# Altium footprint library AG.Chip.PcbLib: 9 footprints
Each footprint in its own frame and in the unit in brackets; x right, y up, seen from the top. Pads: shape width x height; smd on the part's side, far side on the other; paste and mask are expansions set on the pad; w line width, h text height; cw(c..) or ccw(c..) is an arc to the next point about the centre after c.
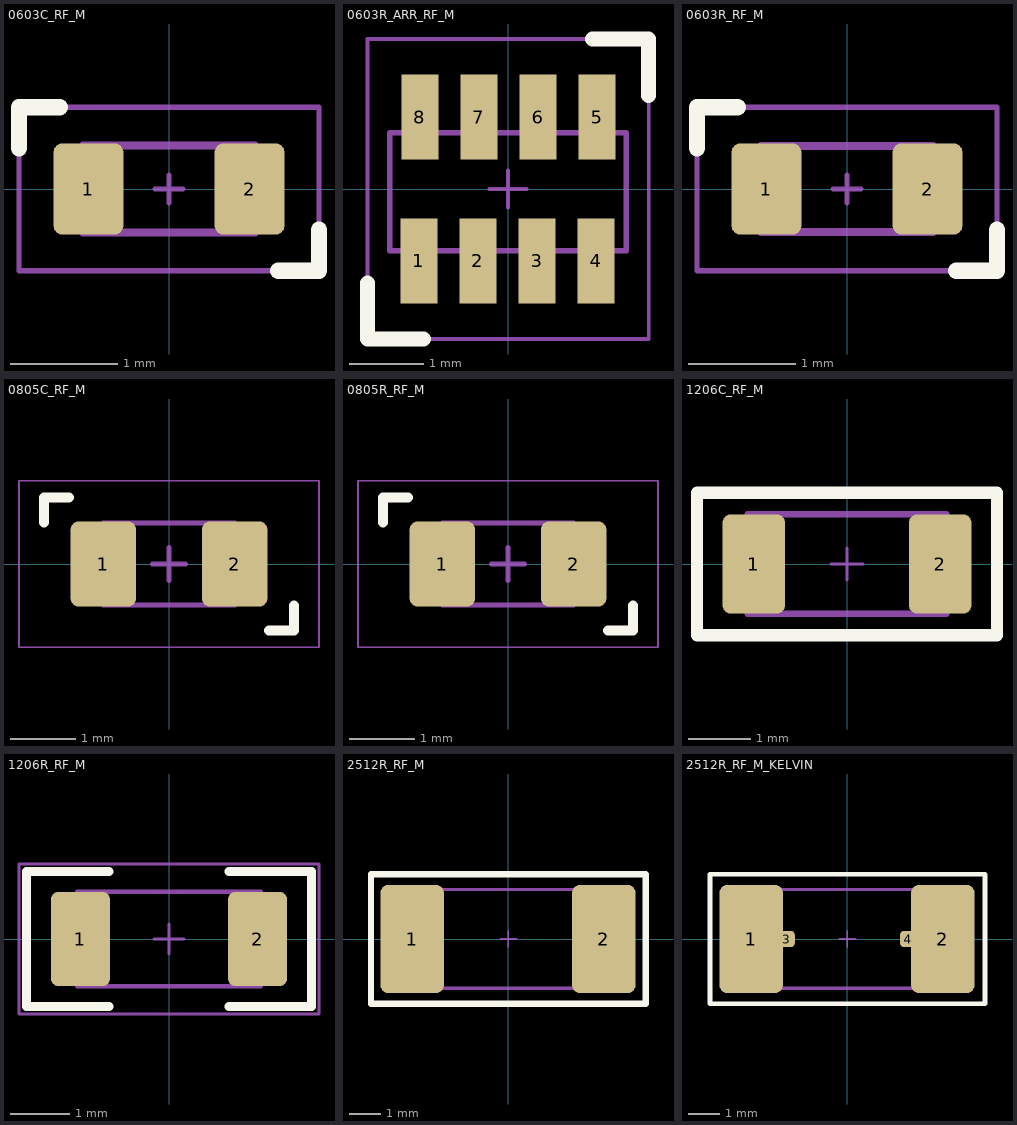
[diagram p0: the footprints below, top view; thin cyan lines are the x and y axes]

## 0603C_RF_M [mm] "Chip Capacitor 0603 Reflow Medium"
pads (2):
  rrect25% 0.65x0.85 smd: 1(-0.75,0) 2(0.75,0)
Top Overlay:
  lines w0.152: -1.397,0.381 -1.397,0.762 -1.016,0.762 ; 1.016,-0.762 1.397,-0.762 1.397,-0.381
Mechanical 13:
  lines w0.076: -0.8,-0.405 0.8,-0.405 0.8,0.405 -0.8,0.405 -0.8,-0.405
Mechanical 15:
  lines w0.051: -0.127,0 0.127,0 ; 0,-0.127 0,0.127 ; -1.397,-0.762 -1.397,0.762 1.397,0.762 1.397,-0.762 -1.397,-0.762
3D body "CAP-06033A102FAT2A.STEP": height 0.9, standoff 0, extent -0.8,-0.405 0.8,0.405

## 0603R_ARR_RF_M [mm]
pads (8):
  rect 0.5x1.15 smd: 1(-1.206,-0.975) 2(-0.406,-0.975) 3(0.393,-0.975) 4(1.194,-0.975) 5(1.206,0.975) 6(0.406,0.975) 7(-0.393,0.975) 8(-1.194,0.975)
Top Overlay:
  lines w0.203: -1.905,-1.27 -1.905,-2.032 -1.143,-2.032 ; 1.143,2.032 1.905,2.032 1.905,1.27
Mechanical 13:
  lines w0.076: -1.6,-0.838 1.6,-0.838 1.6,0.762 -1.6,0.762 -1.6,-0.838
Mechanical 15:
  lines w0.051: -0.254,0 0.254,0 ; 0,-0.254 0,0.254 ; -1.905,-2.032 1.905,-2.032 1.905,2.032 -1.905,2.032 -1.905,-2.032
3D body "RES_ARR_YC164_RESPACK.stp": height 0.61, standoff 0, extent -1.6,-0.838 1.6,0.762

## 0603R_RF_M [mm] "Chip Resistor 0603 Reflow Medium"
pads (2):
  rrect25% 0.65x0.85 smd: 1(-0.75,0) 2(0.75,0)
Top Overlay:
  lines w0.152: -1.397,0.381 -1.397,0.762 -1.016,0.762 ; 1.016,-0.762 1.397,-0.762 1.397,-0.381
Mechanical 13:
  lines w0.076: -0.8,-0.4 -0.8,0.4 0.8,0.4 0.8,-0.4 -0.8,-0.4
Mechanical 15:
  lines w0.051: -0.127,0 0.127,0 ; 0,-0.127 0,0.127 ; -1.397,-0.762 1.397,-0.762 1.397,0.762 -1.397,0.762 -1.397,-0.762
3D body "RES-CRGCQ0603J4M7.STEP": height 0.55, standoff 0, extent -0.8,-0.4 0.8,0.4

## 0805C_RF_M [mm] "Chip Capacitor 0805 Reflow Medium"
pads (2):
  rrect25% 1x1.3 smd: 1(-1,0) 2(1,0)
Top Overlay:
  lines w0.152: -1.905,0.635 -1.905,1.016 -1.524,1.016 ; 1.524,-1.016 1.905,-1.016 1.905,-0.635
Mechanical 13:
  lines w0.076: -1.005,-0.625 -1.005,0.625 1.005,0.625 1.005,-0.625 -1.005,-0.625
Mechanical 15:
  lines w0.025: -2.286,-1.27 -2.286,1.27 2.286,1.27 2.286,-1.27 -2.286,-1.27
  lines w0.076: -0.254,0 0.254,0 ; 0,-0.254 0,0.254
3D body "CAP-08053C104JAT2A.STEP": height 0.94, standoff 0, extent -1.005,-0.625 1.005,0.625

## 0805R_RF_M [mm] "Chip Resistor 0805 Reflow Medium"
pads (2):
  rrect25% 1x1.3 smd: 1(-1,0) 2(1,0)
Top Overlay:
  lines w0.152: -1.905,0.635 -1.905,1.016 -1.524,1.016 ; 1.524,-1.016 1.905,-1.016 1.905,-0.635
Mechanical 13:
  lines w0.076: -1,-0.625 1,-0.625 1,0.625 -1,0.625 -1,-0.625
Mechanical 15:
  lines w0.025: -2.286,-1.27 2.286,-1.27 2.286,1.27 -2.286,1.27 -2.286,-1.27
  lines w0.076: -0.254,0 0.254,0 ; 0,-0.254 0,0.254
3D body "RES-RT0805BRD0713KL.STEP": height 0.6, standoff 0, extent -1,-0.625 1,0.625

## 1206C_RF_M [mm] "Chip Capacitor 1206 Reflow Medium"
pads (2):
  rrect25% 1x1.6 smd: 1(-1.5,0) 2(1.5,0)
Top Overlay:
  lines w0.2: -2.413,-1.143 2.413,-1.143 2.413,1.143 -2.413,1.143 -2.413,-1.143
Mechanical 13:
  lines w0.1: -1.6,-0.8 1.6,-0.8 1.6,0.8 -1.6,0.8 -1.6,-0.8
Mechanical 15:
  lines w0.05: -0.254,0 0.254,0 ; 0,-0.254 0,0.254 ; -2.413,-1.143 2.413,-1.143 2.413,1.143 -2.413,1.143 -2.413,-1.143
3D body "CAP-12063C104KAT2A.STEP": height 0.94, standoff 0, extent -1.6,-0.8 1.6,0.8

## 1206R_RF_M [mm] "Chip Resistor 1206 Reflow Medium"
pads (2):
  rrect25% 1x1.6 smd: 1(-1.5,0) 2(1.5,0)
Top Overlay:
  lines w0.152: -1.016,-1.143 -2.413,-1.143 -2.413,1.143 -1.016,1.143 ; 1.016,-1.143 2.413,-1.143 2.413,1.143 1.016,1.143
Mechanical 13:
  lines w0.076: -1.55,-0.8 1.55,-0.8 1.55,0.8 -1.55,0.8 -1.55,-0.8
Mechanical 15:
  lines w0.051: -0.254,0 0.254,0 ; 0,-0.254 0,0.254 ; -2.54,-1.27 -2.54,1.27 2.54,1.27 2.54,-1.27 -2.54,-1.27
3D body "RES-RC1206JR-07390RL.STEP": height 0.65, standoff 0, extent -1.55,-0.8 1.55,0.8

## 2512R_RF_M [mm] "Chip Resistor 2512 Reflow Medium"
pads (2):
  rrect25% 2x3.4 smd: 1(-3.025,0) 2(3,0)
Top Overlay:
  lines w0.2: -4.318,-2.032 4.318,-2.032 4.318,2.032 -4.318,2.032 -4.318,-2.032
Mechanical 13:
  lines w0.1: -3.175,-1.55 3.175,-1.55 3.175,1.55 -3.175,1.55 -3.175,-1.55
Mechanical 15:
  lines w0.05: -0.254,0 0.254,0 ; 0,-0.254 0,0.254 ; -4.318,-2.032 4.318,-2.032 4.318,2.032 -4.318,2.032 -4.318,-2.032
3D body "RES-RC2512FK-07220KL.STEP": height 0.65, standoff 0, extent -3.175,-1.55 3.175,1.55

## 2512R_RF_M_KELVIN [mm] "Chip Resistor 2512 Reflow Medium"
pads (4):
  rrect25% 2x3.4 smd: 1(-3.025,0) 2(3,0)
  rrect50% 0.508x0.508 smd: 3(-1.905,0) 4(1.905,0)
Top Overlay:
  lines w0.152: -4.318,-2.032 4.318,-2.032 4.318,2.032 -4.318,2.032 -4.318,-2.032
Mechanical 13:
  lines w0.1: -3.175,-1.55 3.175,-1.55 3.175,1.55 -3.175,1.55 -3.175,-1.55
Mechanical 15:
  lines w0.05: -0.254,0 0.254,0 ; 0,-0.254 0,0.254 ; -4.318,-2.032 4.318,-2.032 4.318,2.032 -4.318,2.032 -4.318,-2.032
3D body "RES-RC2512FK-07220KL.STEP": height 0.65, standoff 0, extent -3.175,-1.55 3.175,1.55